# EAGLE library part TI-TPS22810-Q1 (library ClintonLib)
2A, 2.7-18V, 79mOhm load switch with thermal protection, SOT23-6 Datasheet <http://www.ti.com/lit/ds/symlink/tps22810-q1.pdf> Digikey <https://www.digikey.com/product-detail/en/texas-instruments/TPS22810TDBVRQ1/296-50496-1-ND/9685635>
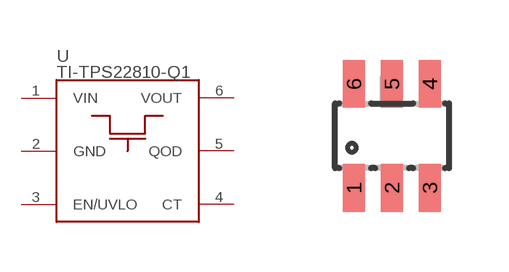
[diagram p31: symbol with the pads of SOT23-6; footprint SOT23-6]

Designator prefix -

## TI-TPS22810-Q1  [SOT23-6]
1  VIN
2  GND
3  EN/UVLO
4  CT
5  QOD
6  VOUT

## Footprint SOT23-6 (pad centres in mm)
smd 0.55 x 1.2: 1 -0.95,-1.3; 2 0,-1.3; 3 0.95,-1.3; 4 0.95,1.3; 5 0,1.3; 6 -0.95,1.3